# EAGLE library part TRANSIENTS_LINK (library ElectricNoodleBox)
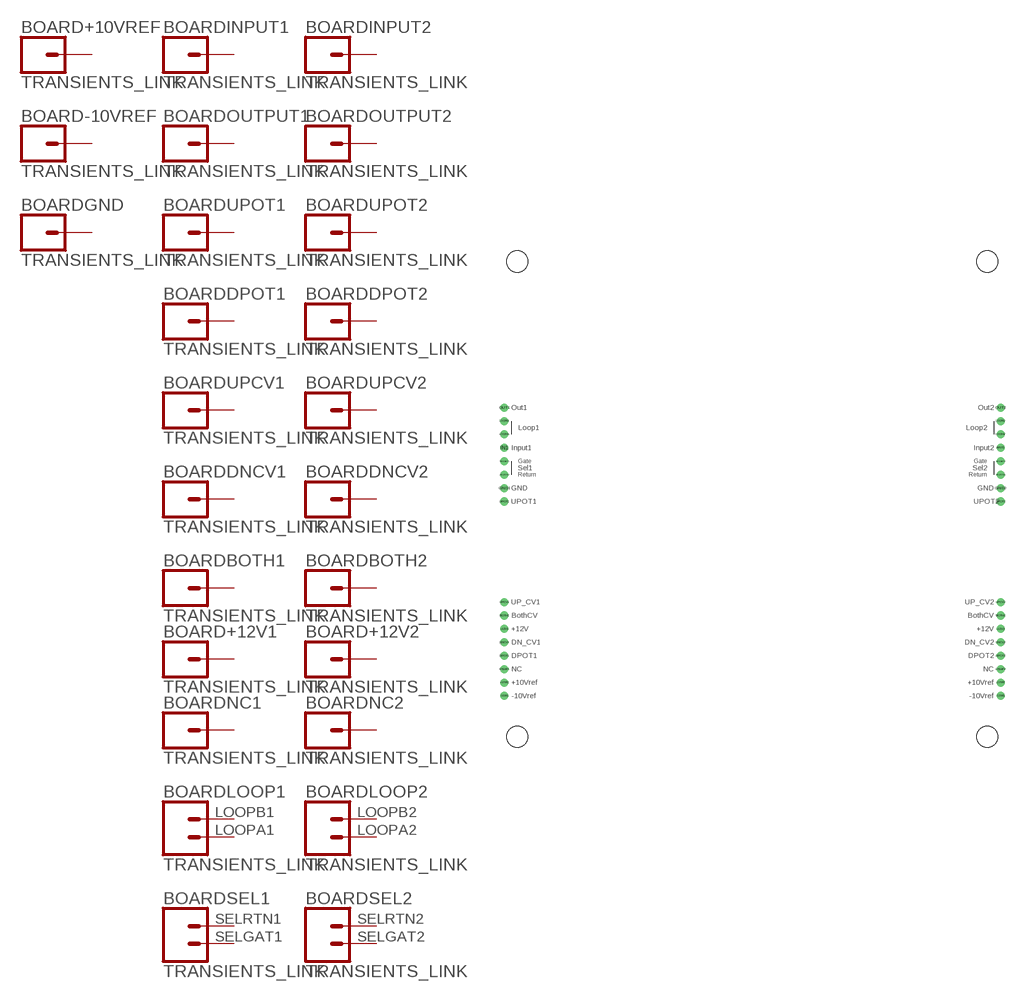
[diagram p33: symbol with the pads of TRANSIENTS; footprint TRANSIENTS]

Designator prefix BOARD; gates +10VREF=CONN_01 -10VREF=CONN_01 GND=CONN_01 UPOT1=CONN_01 DPOT1=CONN_01 UPCV1=CONN_01 DNCV1=CONN_01 BOTH1=CONN_01 LOOP1=CONN_02 SEL1=CONN_02 INPUT1=CONN_01 OUTPUT1=CONN_01 INPUT2=CONN_01 OUTPUT2=CONN_01 UPOT2=CONN_01 DPOT2=CONN_01 UPCV2=CONN_01 DNCV2=CONN_01 BOTH2=CONN_01 LOOP2=CONN_02 SEL2=CONN_02 NC1=CONN_01 +12V1=CONN_01 +12V2=CONN_01 NC2=CONN_01

## TRANSIENTS_LINK  [TRANSIENTS]
+10VR1  +10VREF:1  pas
+10VR2  +10VREF:1  pas
+12V1  +12V1:1  pas
+12V2  +12V2:1  pas
-10VR1  -10VREF:1  pas
-10VR2  -10VREF:1  pas
BOTH1  BOTH1:1  pas
BOTH2  BOTH2:1  pas
DNCV1  DNCV1:1  pas
DNCV2  DNCV2:1  pas
DPOT1  DPOT1:1  pas
DPOT2  DPOT2:1  pas
DSHP1  NC1:1  pas
DSHP2  NC2:1  pas
GND1  GND:1  pas
GND2  GND:1  pas
IN1  INPUT1:1  pas
INPUT2  INPUT2:1  pas
LOOPA1  LOOP1:1  pas
LOOPA2  LOOP2:1  pas
LOOPB1  LOOP1:2  pas
LOOPB2  LOOP2:2  pas
OUT1  OUTPUT1:1  pas
OUT2  OUTPUT2:1  pas
SELGAT1  SEL1:1  pas
SELGAT2  SEL2:1  pas
SELRTN1  SEL1:2  pas
SELRTN2  SEL2:2  pas
UPCV1  UPCV1:1  pas
UPCV2  UPCV2:1  pas
UPOT1  UPOT1:1  pas
UPOT2  UPOT2:1  pas

## Footprint TRANSIENTS (pad centres in mm)
drill 1.016: +10VR1 2.54,15.24; +10VR2 96.52,15.24; +12V1 2.54,25.4; +12V2 96.52,25.4; -10VR1 2.54,12.7; -10VR2 96.52,12.7; BOTH1 2.54,27.94; BOTH2 96.52,27.94; DNCV1 2.54,22.86; DNCV2 96.52,22.86; DPOT1 2.54,20.32; DPOT2 96.52,20.32; DSHP1 2.54,17.78; DSHP2 96.52,17.78; GND1 2.54,52.07; GND2 96.52,52.07; IN1 2.54,59.69; INPUT2 96.52,59.69; LOOPA1 2.54,62.23; LOOPA2 96.52,62.23; LOOPB1 2.54,64.77; LOOPB2 96.52,64.77; OUT1 2.54,67.31; OUT2 96.52,67.31; SELGAT1 2.54,57.15; SELGAT2 96.52,57.15; SELRTN1 2.54,54.61; SELRTN2 96.52,54.61; UPCV1 2.54,30.48; UPCV2 96.52,30.48; UPOT1 2.54,49.53; UPOT2 96.52,49.53
hole 4 at 5,5
hole 4 at 94,5
hole 4 at 94,95
hole 4 at 5,95